# EAGLE library part 691210910006 (library Wurth_Elektronik_Electromechanic_Terminal_Blocks_Connectors_rev16b)
WR-TBL Serie 2109 - 2.54mm Horizontal Entry Modular with Rising Cage Clamp - 0.8mm2 Wires, 6 Pins=>Code : Con_TBL_Screw_RisingClamp_2.54_691210910006 <http://katalog.we-online.de/media/images/eican/Con_TBL_Screw_RisingClamp_2.54_6912109100xx_pf2.jpg> Details see: http://katalog.we-online.de/en/em/691_210_910_0xx Created 2014-06-18, Karrer Zheng 2014 (C) Würth Elektronik
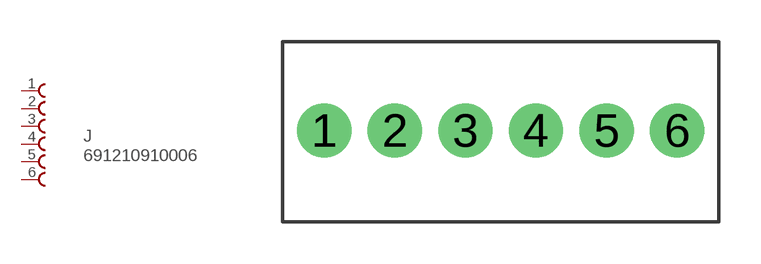
[diagram p3: symbol with the pads of 691210910006; footprint 691210910006]

Designator prefix J

## 691210910006  [691210910006]
1  1  pas
2  2  pas
3  3  pas
4  4  pas
5  5  pas
6  6  pas

## Footprint 691210910006 (pad centres in mm)
WR-TBL Serie 2109 - 2.54mm Horizontal Entry Modular with Rising Cage Clamp - 0.8mm2 Wires, 6 Pins
drill 1.3: 1 -2.54,0; 2 0,0; 3 2.54,0; 4 5.08,0; 5 7.62,0; 6 10.16,0